# EAGLE library part 236-516 (library con-wago_236)
Serie 236, Klemmenleiste für Leiterplatten 2 Lötstifte/Pol / Series 236, PCB terminal strip 2 solder pins/pole Polzahl / Pole No.: 16 Rastermaß / Pitch: 7.62 mm Bemessungsspannung / Rated Voltage: 630 V Nennstrom / Nominal Current: 24 A Leiterquerschnitt / Conductor Size: 0.08 - 2.5 mm² Anschlusstechnik / Connection Technology: CAGE CLAMP® Lötstiftlänge: / Solder Pin Length: 4 mm Leitereinführung (zur Platine) / Conductor entry angle (to PCB): 45 ° Farbe / Color: grau / gray Stand: 01.01.2012. Die jeweils aktuellen Daten zu diesem Artikel finden Sie in unserem Produktkatalog, den Sie unter www.wago.com einsehen können. As of: 01/01/2012. Please find the newest data for this article in our product catalogue, which can be viewed under www.wago.com.
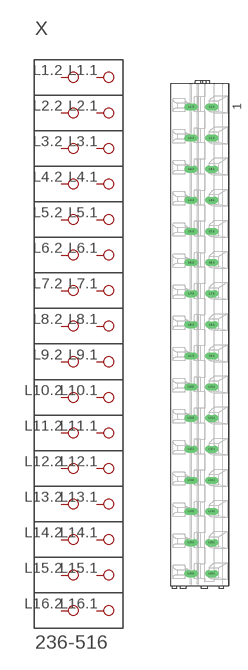
[diagram p31: symbol with the pads of P-236-516; footprint P-236-516]

Designator prefix X

## 236-516  [P-236-516]
L1.1  P1.1
L1.2  P1.2
L2.1  P2.1
L2.2  P2.2
L3.1  P3.1
L3.2  P3.2
L4.1  P4.1
L4.2  P4.2
L5.1  P5.1
L5.2  P5.2
L6.1  P6.1
L6.2  P6.2
L7.1  P7.1
L7.2  P7.2
L8.1  P8.1
L8.2  P8.2
L9.1  P9.1
L9.2  P9.2
L10.1  P10.1
L10.2  P10.2
L11.1  P11.1
L11.2  P11.2
L12.1  P12.1
L12.2  P12.2
L13.1  P13.1
L13.2  P13.2
L14.1  P14.1
L14.2  P14.2
L15.1  P15.1
L15.2  P15.2
L16.1  P16.1
L16.2  P16.2

## Footprint P-236-516 (pad centres in mm)
drill 1.1 long: L1.1 2.957,54.85; L1.2 -2.043,54.85; L2.1 2.957,47.35; L2.2 -2.043,47.35; L3.1 2.957,39.85; L3.2 -2.043,39.85; L4.1 2.957,32.35; L4.2 -2.043,32.35; L5.1 2.957,24.85; L5.2 -2.043,24.85; L6.1 2.957,17.35; L6.2 -2.043,17.35; L7.1 2.957,9.85; L7.2 -2.043,9.85; L8.1 2.957,2.35; L8.2 -2.043,2.35; L9.1 2.957,-5.15; L9.2 -2.043,-5.15; L10.1 2.957,-12.65; L10.2 -2.043,-12.65; L11.1 2.957,-20.15; L11.2 -2.043,-20.15; L12.1 2.957,-27.65; L12.2 -2.043,-27.65; L13.1 2.957,-35.15; L13.2 -2.043,-35.15; L14.1 2.957,-42.65; L14.2 -2.043,-42.65; L15.1 2.957,-50.15; L15.2 -2.043,-50.15; L16.1 2.957,-57.65; L16.2 -2.043,-57.65